# Altium integrated library Wurth_Elektronik_Passive_rev16a.IntLib: 1143 symbols (part 16 of 28)
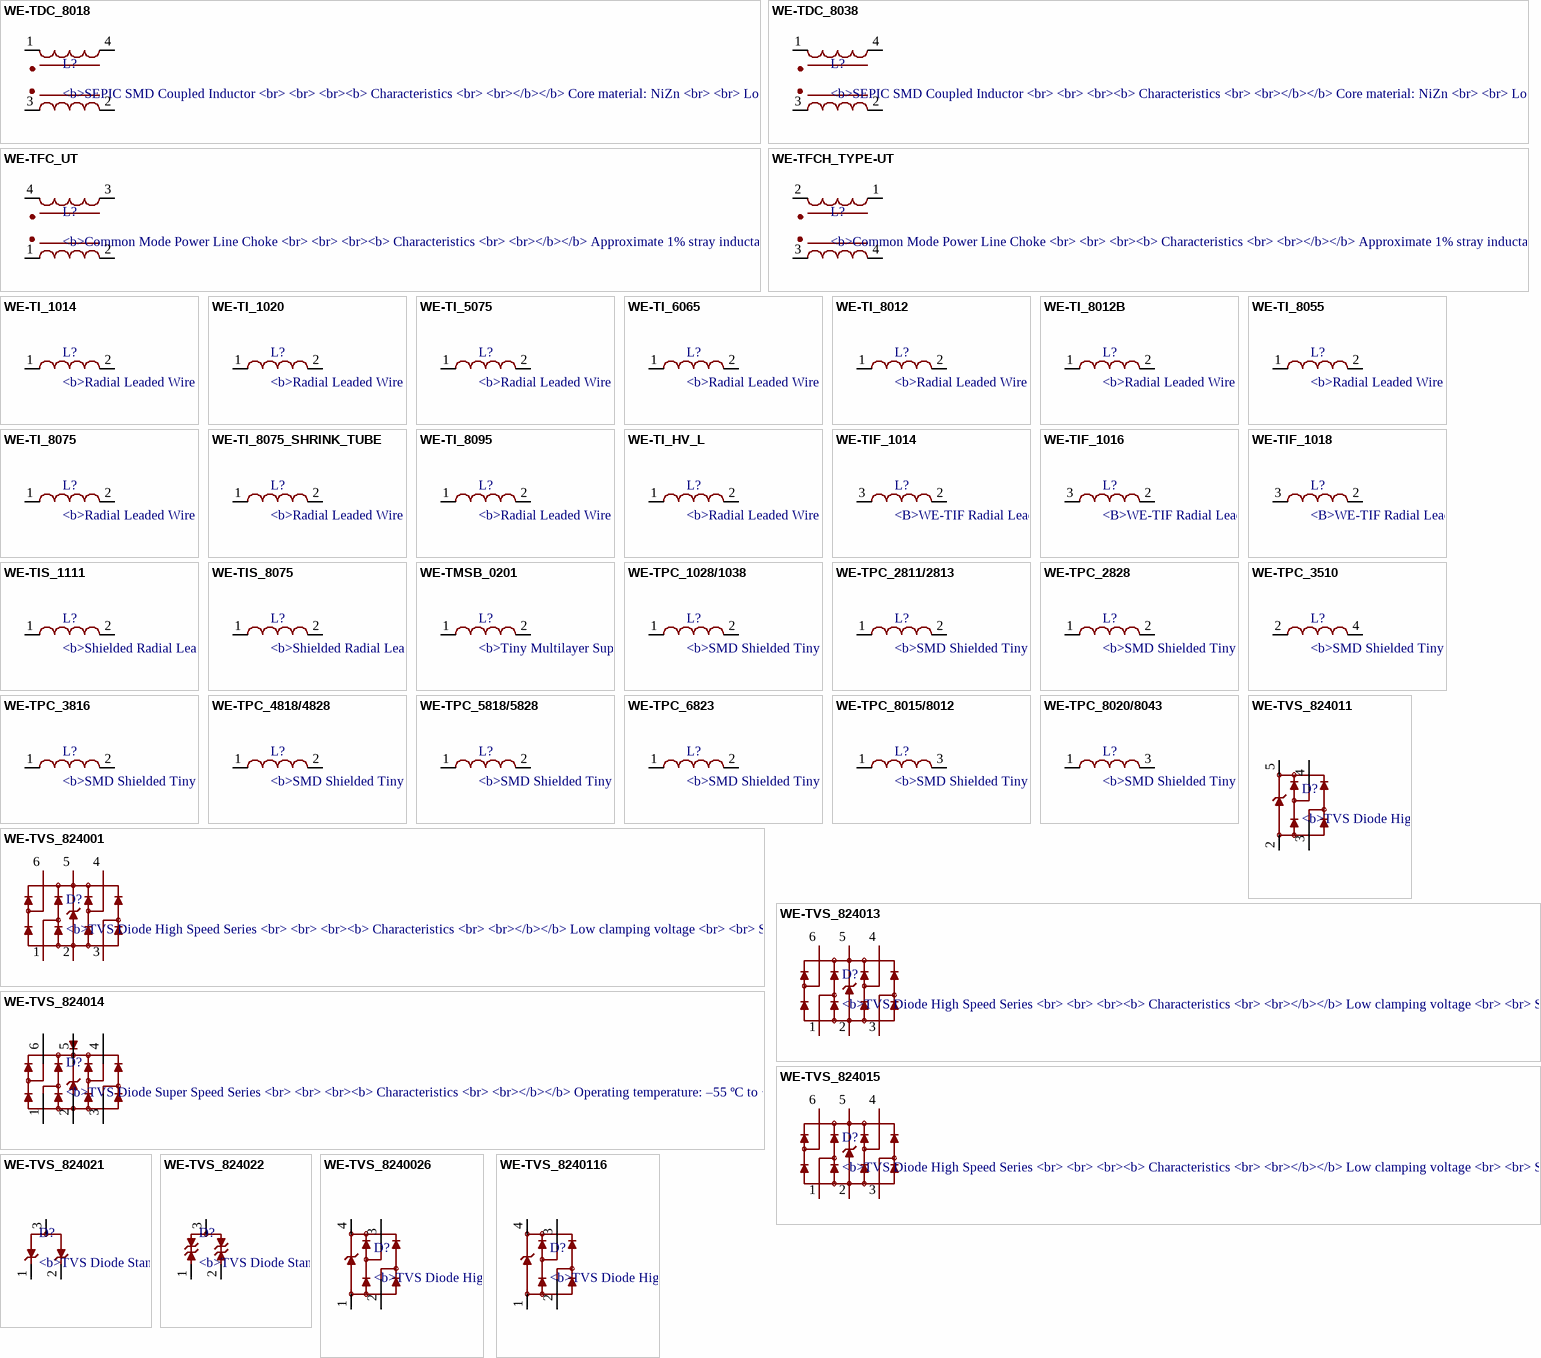
[diagram p73: symbols WE-TDC_8018 to WE-TVS_8240116]

## WE-TIF_1014
designator L?, comment <B>WE-TIF Radial Leaded Wire Wound Inductor with 4 Pins</B><BR> / <BR> / <B>Characteristics<br></b><br> / Radial through-hole inductor <br> / High saturation core material<br> / Maximum current up to 3.1 A <br> / 2 additional pins for high mechanical stability<br> / <br> / <b>Application</b><br> / <br> / Signal filtering <br> / EMI and power supply filter<br> / DC/DC converters <br> / Switching power<br> / Supplies for small and medium voltage<br> / Power supply for LED <br> / Nearfield applications <br> / <br> / <br><a href="http://katalog.we-online.de/media/images/eisos/IndTIF_pf2.jpg" title="Enlarge picture"> / <img src="http://katalog.we-online.de/media/images/eisos/IndTIF_pf2.jpg" width="320"></a><p> / Details see: <a href="http://katalog.we-online.de/en/pbs/WE-TIF">http://katalog.we-online.de/en/pbs/WE-TIF</a><p> / Updated on 2015-05-21<br> / 2015(C) Wurth Elektronik
footprint WE-TIF
pins: 2, 3 1

## WE-TIF_1016
designator L?, comment <B>WE-TIF Radial Leaded Wire Wound Inductor with 4 Pins</B><BR> / <BR> / <B>Characteristics<br></b><br> / Radial through-hole inductor <br> / High saturation core material<br> / Maximum current up to 3.1 A <br> / 2 additional pins for high mechanical stability<br> / <br> / <b>Application</b><br> / <br> / Signal filtering <br> / EMI and power supply filter<br> / DC/DC converters <br> / Switching power<br> / Supplies for small and medium voltage<br> / Power supply for LED <br> / Nearfield applications <br> / <br> / <br><a href="http://katalog.we-online.de/media/images/eisos/IndTIF_pf2.jpg" title="Enlarge picture"> / <img src="http://katalog.we-online.de/media/images/eisos/IndTIF_pf2.jpg" width="320"></a><p> / Details see: <a href="http://katalog.we-online.de/en/pbs/WE-TIF">http://katalog.we-online.de/en/pbs/WE-TIF</a><p> / Updated on 2015-05-21<br> / 2015(C) Wurth Elektronik
footprint WE-TIF_1016
pins: 2, 3 1

## WE-TIF_1018
designator L?, comment <B>WE-TIF Radial Leaded Wire Wound Inductor with 4 Pins</B><BR> / <BR> / <B>Characteristics<br></b><br> / Radial through-hole inductor <br> / High saturation core material<br> / Maximum current up to 3.1 A <br> / 2 additional pins for high mechanical stability<br> / <br> / <b>Application</b><br> / <br> / Signal filtering <br> / EMI and power supply filter<br> / DC/DC converters <br> / Switching power<br> / Supplies for small and medium voltage<br> / Power supply for LED <br> / Nearfield applications <br> / <br> / <br><a href="http://katalog.we-online.de/media/images/eisos/IndTIF_pf2.jpg" title="Enlarge picture"> / <img src="http://katalog.we-online.de/media/images/eisos/IndTIF_pf2.jpg" width="320"></a><p> / Details see: <a href="http://katalog.we-online.de/en/pbs/WE-TIF">http://katalog.we-online.de/en/pbs/WE-TIF</a><p> / Updated on 2015-05-21<br> / 2015(C) Wurth Elektronik
footprint WE-TIF
pins: 2, 3 1

## WE-TIS_1111
designator L?, comment <b>Shielded Radial Leaded Wire Wound Inductor / <br> / <br> / <br><b> Characteristics / <br> / <br></b></b> Shielded radial through-hole inductor / <br> / <br> High rated and saturation current / <br> / <br> High inductance values / <br> / <br> Low stray field / <br> / <br> / <br><b> Applications / <br> / <br></b> Filter choke / <br> / <br> Storage choke / <br> / <br> Class D amplifiers / <br> / <br> / <br> / <br><a href="http://katalog.we-online.de/media/images/eisos/IndTIS_pf2.jpg" title="Enlarge picture"> / <img src="http://katalog.we-online.de/media/images/eisos/IndTIS_pf2.jpg" width="320"></a><p> / Details see: <a href="http://katalog.we-online.de/en/pbs/WE-TIS?">http://katalog.we-online.de/en/pbs/WE-TIS?</a><p> / </b>Updated  by  Dan Xu 2014-07-11<br> / </b>2014 (C) Wurth Elektronik
footprint WE-TIS_1111
pins: 1, 2

## WE-TIS_8075
designator L?, comment <b>Shielded Radial Leaded Wire Wound Inductor / <br> / <br> / <br><b> Characteristics / <br> / <br></b></b> Shielded radial through-hole inductor / <br> / <br> High rated and saturation current / <br> / <br> High inductance values / <br> / <br> Low stray field / <br> / <br> / <br><b> Applications / <br> / <br></b> Filter choke / <br> / <br> Storage choke / <br> / <br> Class D amplifiers / <br> / <br> / <br> / <br><a href="http://katalog.we-online.de/media/images/eisos/IndTIS_pf2.jpg" title="Enlarge picture"> / <img src="http://katalog.we-online.de/media/images/eisos/IndTIS_pf2.jpg" width="320"></a><p> / Details see: <a href="http://katalog.we-online.de/en/pbs/WE-TIS?">http://katalog.we-online.de/en/pbs/WE-TIS?</a><p> / </b>Updated  by  Dan Xu 2014-07-11<br> / </b>2014 (C) Wurth Elektronik
footprint WE-TIS_8075
pins: 1, 2

## WE-TMSB_0201
designator L?, comment <b>Tiny Multilayer Suppression Bead / <br> / <br> / <br><b> Characteristics / <br> / <br></b></b> Perfect for Miniaturization of EMI solutions / <br> / <br> Wide Impedance range from 10 up to 300 Ω / <br> / <br> Operating Temperature: –55 °C to +125 °C / <br> / <br> / <br><b> Applications / <br> / <br></b> General signal and low power lines / <br> / <br> Audio-, video-, clocklines / <br> / <br> Small handheld / <br> / <br> / <br> / <br><a href="http://katalog.we-online.de/media/images/eisos/FeTMSB_pf2.jpg" title="Enlarge picture"> / <img src="http://katalog.we-online.de/media/images/eisos/FeTMSB_pf2.jpg" width="320"></a><p> / Details see: <a href="http://katalog.we-online.de/en/pbs/WE-TMSB?">http://katalog.we-online.de/en/pbs/WE-TMSB?</a><p> / </b>Updated  by  Dan Xu 2014-07-11<br> / </b>2014 (C) Wurth Elektronik
MANUFACTURER: Würth Elektronik eiSos GmbH; CREATED-BY: Christin Otto; COMPANY-URL: http://www.we-online.de; CREATED-DATE: August 2013; DATASHEET-URL: http://katalog.we-online.de/de/pbs/WE-TMSB?sid=4c5a5b26c6
footprint WE-TMSB_0201
pins: 1, 2

## WE-TPC_1028/1038
designator L?, comment <b>SMD Shielded Tiny Power Inductor / <br> / <br> / <br><b> Characteristics / <br> / <br></b></b> Extremely flat power inductor / <br> / <br> High current capability / <br> / <br> Magnetically shielded which results in a low leakage field / <br> / <brr> Operating temperature: –40 °C to +125 °C / <br> / <br> / <br><b> Applications / <br> / <br></b> Portable power like PDA, digital camera, PCMCIA cards and displays / <br> / <br> DC/DC converter / <br> / <br> Embedded PC / <br> / <br> Mobile data gathering, telemetric / <br> / <br> / <br> / <br><a href="http://katalog.we-online.de/media/images/eisos/IndTPC_pf2.jpg" title="Enlarge picture"> / <img src="http://katalog.we-online.de/media/images/eisos/IndTPC_pf2.jpg" width="320"></a><p> / Details see: <a href="http://katalog.we-online.de/en/pbs/WE-TPC?">http://katalog.we-online.de/en/pbs/WE-TPC?</a><p> / </b>Updated  by  Dan Xu 2014-07-11<br> / </b>2014 (C) Wurth Elektronik
footprint WE-TPC_1028/1038
pins: 1, 2

## WE-TPC_2811/2813
designator L?, comment <b>SMD Shielded Tiny Power Inductor / <br> / <br> / <br><b> Characteristics / <br> / <br></b></b> Extremely flat power inductor / <br> / <br> High current capability / <br> / <br> Magnetically shielded which results in a low leakage field / <br> / <brr> Operating temperature: –40 °C to +125 °C / <br> / <br> / <br><b> Applications / <br> / <br></b> Portable power like PDA, digital camera, PCMCIA cards and displays / <br> / <br> DC/DC converter / <br> / <br> Embedded PC / <br> / <br> Mobile data gathering, telemetric / <br> / <br> / <br> / <br><a href="http://katalog.we-online.de/media/images/eisos/IndTPC_pf2.jpg" title="Enlarge picture"> / <img src="http://katalog.we-online.de/media/images/eisos/IndTPC_pf2.jpg" width="320"></a><p> / Details see: <a href="http://katalog.we-online.de/en/pbs/WE-TPC?">http://katalog.we-online.de/en/pbs/WE-TPC?</a><p> / </b>Updated  by  Dan Xu 2014-07-11<br> / </b>2014 (C) Wurth Elektronik
footprint WE-TPC_2811/2813
pins: 1, 2

## WE-TPC_2828
designator L?, comment <b>SMD Shielded Tiny Power Inductor / <br> / <br> / <br><b> Characteristics / <br> / <br></b></b> Extremely flat power inductor / <br> / <br> High current capability / <br> / <br> Magnetically shielded which results in a low leakage field / <br> / <brr> Operating temperature: –40 °C to +125 °C / <br> / <br> / <br><b> Applications / <br> / <br></b> Portable power like PDA, digital camera, PCMCIA cards and displays / <br> / <br> DC/DC converter / <br> / <br> Embedded PC / <br> / <br> Mobile data gathering, telemetric / <br> / <br> / <br> / <br><a href="http://katalog.we-online.de/media/images/eisos/IndTPC_pf2.jpg" title="Enlarge picture"> / <img src="http://katalog.we-online.de/media/images/eisos/IndTPC_pf2.jpg" width="320"></a><p> / Details see: <a href="http://katalog.we-online.de/en/pbs/WE-TPC?">http://katalog.we-online.de/en/pbs/WE-TPC?</a><p> / </b>Updated  by  Dan Xu 2014-07-11<br> / </b>2014 (C) Wurth Elektronik
footprint WE-TPC_2828
pins: 1, 2

## WE-TPC_3510
designator L?, comment <b>SMD Shielded Tiny Power Inductor / <br> / <br> / <br><b> Characteristics / <br> / <br></b></b> Extremely flat power inductor / <br> / <br> High current capability / <br> / <br> Magnetically shielded which results in a low leakage field / <br> / <brr> Operating temperature: –40 °C to +125 °C / <br> / <br> / <br><b> Applications / <br> / <br></b> Portable power like PDA, digital camera, PCMCIA cards and displays / <br> / <br> DC/DC converter / <br> / <br> Embedded PC / <br> / <br> Mobile data gathering, telemetric / <br> / <br> / <br> / <br><a href="http://katalog.we-online.de/media/images/eisos/IndTPC_pf2.jpg" title="Enlarge picture"> / <img src="http://katalog.we-online.de/media/images/eisos/IndTPC_pf2.jpg" width="320"></a><p> / Details see: <a href="http://katalog.we-online.de/en/pbs/WE-TPC?">http://katalog.we-online.de/en/pbs/WE-TPC?</a><p> / </b>Updated  by  Dan Xu 2014-07-11<br> / </b>2014 (C) Wurth Elektronik
footprint WE-TPC_3510
pins: 2 1, 4 2

## WE-TPC_3816
designator L?, comment <b>SMD Shielded Tiny Power Inductor / <br> / <br> / <br><b> Characteristics / <br> / <br></b></b> Extremely flat power inductor / <br> / <br> High current capability / <br> / <br> Magnetically shielded which results in a low leakage field / <br> / <brr> Operating temperature: –40 °C to +125 °C / <br> / <br> / <br><b> Applications / <br> / <br></b> Portable power like PDA, digital camera, PCMCIA cards and displays / <br> / <br> DC/DC converter / <br> / <br> Embedded PC / <br> / <br> Mobile data gathering, telemetric / <br> / <br> / <br> / <br><a href="http://katalog.we-online.de/media/images/eisos/IndTPC_pf2.jpg" title="Enlarge picture"> / <img src="http://katalog.we-online.de/media/images/eisos/IndTPC_pf2.jpg" width="320"></a><p> / Details see: <a href="http://katalog.we-online.de/en/pbs/WE-TPC?">http://katalog.we-online.de/en/pbs/WE-TPC?</a><p> / </b>Updated  by  Dan Xu 2014-07-11<br> / </b>2014 (C) Wurth Elektronik
footprint WE-TPC_3816
pins: 1, 2

## WE-TPC_4818/4828
designator L?, comment <b>SMD Shielded Tiny Power Inductor / <br> / <br> / <br><b> Characteristics / <br> / <br></b></b> Extremely flat power inductor / <br> / <br> High current capability / <br> / <br> Magnetically shielded which results in a low leakage field / <br> / <brr> Operating temperature: –40 °C to +125 °C / <br> / <br> / <br><b> Applications / <br> / <br></b> Portable power like PDA, digital camera, PCMCIA cards and displays / <br> / <br> DC/DC converter / <br> / <br> Embedded PC / <br> / <br> Mobile data gathering, telemetric / <br> / <br> / <br> / <br><a href="http://katalog.we-online.de/media/images/eisos/IndTPC_pf2.jpg" title="Enlarge picture"> / <img src="http://katalog.we-online.de/media/images/eisos/IndTPC_pf2.jpg" width="320"></a><p> / Details see: <a href="http://katalog.we-online.de/en/pbs/WE-TPC?">http://katalog.we-online.de/en/pbs/WE-TPC?</a><p> / </b>Updated  by  Dan Xu 2014-07-11<br> / </b>2014 (C) Wurth Elektronik
footprint WE-TPC_4818/4828
pins: 1, 2

## WE-TPC_5818/5828
designator L?, comment <b>SMD Shielded Tiny Power Inductor / <br> / <br> / <br><b> Characteristics / <br> / <br></b></b> Extremely flat power inductor / <br> / <br> High current capability / <br> / <br> Magnetically shielded which results in a low leakage field / <br> / <brr> Operating temperature: –40 °C to +125 °C / <br> / <br> / <br><b> Applications / <br> / <br></b> Portable power like PDA, digital camera, PCMCIA cards and displays / <br> / <br> DC/DC converter / <br> / <br> Embedded PC / <br> / <br> Mobile data gathering, telemetric / <br> / <br> / <br> / <br><a href="http://katalog.we-online.de/media/images/eisos/IndTPC_pf2.jpg" title="Enlarge picture"> / <img src="http://katalog.we-online.de/media/images/eisos/IndTPC_pf2.jpg" width="320"></a><p> / Details see: <a href="http://katalog.we-online.de/en/pbs/WE-TPC?">http://katalog.we-online.de/en/pbs/WE-TPC?</a><p> / </b>Updated  by  Dan Xu 2014-07-11<br> / </b>2014 (C) Wurth Elektronik
footprint WE-TPC_5818/5828
pins: 1, 2

## WE-TPC_6823
designator L?, comment <b>SMD Shielded Tiny Power Inductor / <br> / <br> / <br><b> Characteristics / <br> / <br></b></b> Extremely flat power inductor / <br> / <br> High current capability / <br> / <br> Magnetically shielded which results in a low leakage field / <br> / <brr> Operating temperature: –40 °C to +125 °C / <br> / <br> / <br><b> Applications / <br> / <br></b> Portable power like PDA, digital camera, PCMCIA cards and displays / <br> / <br> DC/DC converter / <br> / <br> Embedded PC / <br> / <br> Mobile data gathering, telemetric / <br> / <br> / <br> / <br><a href="http://katalog.we-online.de/media/images/eisos/IndTPC_pf2.jpg" title="Enlarge picture"> / <img src="http://katalog.we-online.de/media/images/eisos/IndTPC_pf2.jpg" width="320"></a><p> / Details see: <a href="http://katalog.we-online.de/en/pbs/WE-TPC?">http://katalog.we-online.de/en/pbs/WE-TPC?</a><p> / </b>Updated  by  Dan Xu 2014-07-11<br> / </b>2014 (C) Wurth Elektronik
footprint WE-TPC_6823
pins: 1, 2

## WE-TPC_8015/8012
designator L?, comment <b>SMD Shielded Tiny Power Inductor / <br> / <br> / <br><b> Characteristics / <br> / <br></b></b> Extremely flat power inductor / <br> / <br> High current capability / <br> / <br> Magnetically shielded which results in a low leakage field / <br> / <brr> Operating temperature: –40 °C to +125 °C / <br> / <br> / <br><b> Applications / <br> / <br></b> Portable power like PDA, digital camera, PCMCIA cards and displays / <br> / <br> DC/DC converter / <br> / <br> Embedded PC / <br> / <br> Mobile data gathering, telemetric / <br> / <br> / <br> / <br><a href="http://katalog.we-online.de/media/images/eisos/IndTPC_pf2.jpg" title="Enlarge picture"> / <img src="http://katalog.we-online.de/media/images/eisos/IndTPC_pf2.jpg" width="320"></a><p> / Details see: <a href="http://katalog.we-online.de/en/pbs/WE-TPC?">http://katalog.we-online.de/en/pbs/WE-TPC?</a><p> / </b>Updated  by  Dan Xu 2014-07-11<br> / </b>2014 (C) Wurth Elektronik
footprint WE-TPC_8015/8012
pins: 1, 3 2

## WE-TPC_8020/8043
designator L?, comment <b>SMD Shielded Tiny Power Inductor / <br> / <br> / <br><b> Characteristics / <br> / <br></b></b> Extremely flat power inductor / <br> / <br> High current capability / <br> / <br> Magnetically shielded which results in a low leakage field / <br> / <brr> Operating temperature: –40 °C to +125 °C / <br> / <br> / <br><b> Applications / <br> / <br></b> Portable power like PDA, digital camera, PCMCIA cards and displays / <br> / <br> DC/DC converter / <br> / <br> Embedded PC / <br> / <br> Mobile data gathering, telemetric / <br> / <br> / <br> / <br><a href="http://katalog.we-online.de/media/images/eisos/IndTPC_pf2.jpg" title="Enlarge picture"> / <img src="http://katalog.we-online.de/media/images/eisos/IndTPC_pf2.jpg" width="320"></a><p> / Details see: <a href="http://katalog.we-online.de/en/pbs/WE-TPC?">http://katalog.we-online.de/en/pbs/WE-TPC?</a><p> / </b>Updated  by  Dan Xu 2014-07-11<br> / </b>2014 (C) Wurth Elektronik
footprint WE-TPC_8020/8043
pins: 1, 3 2

## WE-TVS_824001
designator D?, comment <b>TVS Diode High Speed Series / <br> / <br> / <br><b> Characteristics / <br> / <br></b></b> Low clamping voltage / <br> / <br> Sturdy design / <br> / <br> Very low capacitance / <br> / <br> Flow Thru Design for a simple layout / <br> / <br> Rail to Rail protection / <br> / <br> Epoxy flame resistant UL94 V-0 / <br> / <br> RoHS, REACH and free of halogens / <br> / <br> / <br><b> Applications / <br> / <br></b> Very fast data lines / <br> / <br> USB 2.0 / <br> / <br> Ethernet / <br> / <br> PoE / <br> / <br> VGA / <br> / <br> Sim Cards / <br> / <br> Keypads / <br> / <br> ESD protection in accordance with EN 61000-4-2, / <br>– 8 kV contact discharge / <br>– 15 kV air discharge / <br> / <br> / <br> / <br><a href="http://katalog.we-online.de/media/images/eisos/VarTVS_highspeed_pf2.jpg.jpg" title="Enlarge picture"> / <img src="http://katalog.we-online.de/media/images/eisos/VarTVS_highspeed_pf2.jpg" width="320"></a><p> / Details see: <a href="http://katalog.we-online.de/en/pbs/WE-TVS_High_Speed/824001?">http://katalog.we-online.de/en/pbs/WE-TVS_High_Speed/824001?</a><p> / </b>Updated  by  Dan Xu 2014-07-11<br> / </b>2014 (C) Wurth Elektronik
footprint WE-TVS_SOT23-6L
pins: 1, 2 GND (power), 3 2, 4 3, 5 VDD (power), 6 4

## WE-TVS_824011
designator D?, comment <b>TVS Diode High Speed Series / <br> / <br> / <br><b> Characteristics / <br> / <br></b></b> Low clamping voltage / <br> / <br> Sturdy design / <br> / <br> Very low capacitance / <br> / <br> Flow Thru Design for a simple layout / <br> / <br> Rail to Rail protection / <br> / <br> Epoxy flame resistant UL94 V-0 / <br> / <br> RoHS, REACH and free of halogens / <br> / <br> / <br><b> Applications / <br> / <br></b> Very fast data lines / <br> / <br> USB 2.0 / <br> / <br> Ethernet / <br> / <br> PoE / <br> / <br> VGA / <br> / <br> Sim Cards / <br> / <br> Keypads / <br> / <br> ESD protection in accordance with EN 61000-4-2, / <br>– 8 kV contact discharge / <br>– 15 kV air discharge / <br> / <br> / <br> / <br><a href="http://katalog.we-online.de/media/images/eisos/VarTVS_highspeed_pf2.jpg.jpg" title="Enlarge picture"> / <img src="http://katalog.we-online.de/media/images/eisos/VarTVS_highspeed_pf2.jpg" width="320"></a><p> / Details see: <a href="http://katalog.we-online.de/en/pbs/WE-TVS_High_Speed/824001?">http://katalog.we-online.de/en/pbs/WE-TVS_High_Speed/824001?</a><p> / </b>Updated  by  Dan Xu 2014-07-11<br> / </b>2014 (C) Wurth Elektronik
footprint WE-TVS_SOT23-5L
pins: 2 GND (power), 3 1, 4 2, 5 VDD (power)

## WE-TVS_824013
designator D?, comment <b>TVS Diode High Speed Series / <br> / <br> / <br><b> Characteristics / <br> / <br></b></b> Low clamping voltage / <br> / <br> Sturdy design / <br> / <br> Very low capacitance / <br> / <br> Flow Thru Design for a simple layout / <br> / <br> Rail to Rail protection / <br> / <br> Epoxy flame resistant UL94 V-0 / <br> / <br> RoHS, REACH and free of halogens / <br> / <br> / <br><b> Applications / <br> / <br></b> Very fast data lines / <br> / <br> USB 2.0 / <br> / <br> Ethernet / <br> / <br> PoE / <br> / <br> VGA / <br> / <br> Sim Cards / <br> / <br> Keypads / <br> / <br> ESD protection in accordance with EN 61000-4-2, / <br>– 8 kV contact discharge / <br>– 15 kV air discharge / <br> / <br> / <br> / <br><a href="http://katalog.we-online.de/media/images/eisos/VarTVS_highspeed_pf2.jpg.jpg" title="Enlarge picture"> / <img src="http://katalog.we-online.de/media/images/eisos/VarTVS_highspeed_pf2.jpg" width="320"></a><p> / Details see: <a href="http://katalog.we-online.de/en/pbs/WE-TVS_High_Speed/824001?">http://katalog.we-online.de/en/pbs/WE-TVS_High_Speed/824001?</a><p> / </b>Updated  by  Dan Xu 2014-07-11<br> / </b>2014 (C) Wurth Elektronik
footprint WE-TVS_SOT23-6L
pins: 1, 2 GND (power), 3 2, 4 3, 5 VDD (power), 6 4

## WE-TVS_824014
designator D?, comment <b>TVS Diode Super Speed Series / <br> / <br> / <br><b> Characteristics / <br> / <br></b></b> Operating temperature: –55 ºC to +85 °C for 824 014 x; –40 ºC to +85 °C for 824 016 46 / <br> / <br> Low clamping voltage / <br> / <br> Very low capacitance / <br> / <br> Rail to Rail protection / <br> / <br> Epoxy flame resistant UL94 V-0 / <br> / <br> RoHS, REACH and free of halogens / <br> / <br> / <br><b> Applications / <br> / <br></b> Super Speed data lines / <br> / <br> HDMI 1.3/1.4, DVI / <br> / <brr> DisplayPort / <br> / <br> USB 3.0 SuperSpeed / <br> / <brr> SATA / <br> / <br> GBit LAN / <br> / <brr> ESD protection in accordance with EN 61000-4-2 / <br>– 8 kV contact discharge / <br>– 15 kV air discharge / <br> / <br> / <br> / <br><a href="http://katalog.we-online.de/media/images/eisos/VarTVS_highspeed_pf2.jpg.jpg" title="Enlarge picture"> / <img src="http://katalog.we-online.de/media/images/eisos/VarTVS_highspeed_pf2.jpg" width="320"></a><p> / Details see: <a href="http://katalog.we-online.de/en/pbs/WE-TVS_High_Speed/24014?">http://katalog.we-online.de/en/pbs/WE-TVS_High_Speed/24014?</a><p> / </b>Updated  by  Dan Xu 2014-07-11<br> / </b>2014 (C) Wurth Elektronik
footprint WE-TVS_SOT23-6L
pins: 1, 2 GND (power), 3 2, 4 3, 5 VDD (power), 6 4

## WE-TVS_824015
designator D?, comment <b>TVS Diode High Speed Series / <br> / <br> / <br><b> Characteristics / <br> / <br></b></b> Low clamping voltage / <br> / <br> Sturdy design / <br> / <br> Very low capacitance / <br> / <br> Flow Thru Design for a simple layout / <br> / <br> Rail to Rail protection / <br> / <br> Epoxy flame resistant UL94 V-0 / <br> / <br> RoHS, REACH and free of halogens / <br> / <br> / <br><b> Applications / <br> / <br></b> Very fast data lines / <br> / <br> USB 2.0 / <br> / <br> Ethernet / <br> / <br> PoE / <br> / <br> VGA / <br> / <br> Sim Cards / <br> / <br> Keypads / <br> / <br> ESD protection in accordance with EN 61000-4-2, / <br>– 8 kV contact discharge / <br>– 15 kV air discharge / <br> / <br> / <br> / <br><a href="http://katalog.we-online.de/media/images/eisos/VarTVS_highspeed_pf2.jpg.jpg" title="Enlarge picture"> / <img src="http://katalog.we-online.de/media/images/eisos/VarTVS_highspeed_pf2.jpg" width="320"></a><p> / Details see: <a href="http://katalog.we-online.de/en/pbs/WE-TVS_High_Speed/824001?">http://katalog.we-online.de/en/pbs/WE-TVS_High_Speed/824001?</a><p> / </b>Updated  by  Dan Xu 2014-07-11<br> / </b>2014 (C) Wurth Elektronik
footprint WE-TVS_SOT23-6L
pins: 1, 2 GND (power), 3 2, 4 3, 5 VDD (power), 6 4

## WE-TVS_824021
designator D?, comment <b>TVS Diode Standard Series / <br> / <br> / <br><b> Characteristics / <br> / <br></b></b> Operating temperature: –55 ºC to +85 °C for 824 023 x; –55 ºC to +125 °C for 824 021/824 022 / <br> / <br> Very low clamping voltage / <br> / <br> High ESD withstand voltage / <br> / <br> Unidirectional or bidirectional protection / <br> RoHS, REACH and free of halogens / <br> / <br> / <br><b> Applications / <br> / <br></b> DC power supply / <br> / <br> Headsets and accessories / <br> / <br> PDAs / <br> / <br> Digital cameras / <br> / <br> MP3-Player / <br> / <br> Touch Panels / <br> / <br> ESD protection in accordance with EN 61000-4-2 / <br>– 8 kV contact discharge / <br>– 15 kV air discharge / <br> / <br> / <br> / <br><a href="http://katalog.we-online.de/media/images/eisos/VarTVS_highspeed_pf2.jpg.jpg" title="Enlarge picture"> / <img src="http://katalog.we-online.de/media/images/eisos/VarTVS_highspeed_pf2.jpg" width="320"></a><p> / Details see: <a href="http://katalog.we-online.de/en/pbs/WE-TVS_High_Speed/824021?">http://katalog.we-online.de/en/pbs/WE-TVS_High_Speed/824021?</a><p> / </b>Updated  by  Dan Xu 2014-07-11<br> / </b>2014 (C) Wurth Elektronik
footprint WE-TVS_SOT23-3L
pins: 1, 2, 3 GND (power)

## WE-TVS_824022
designator D?, comment <b>TVS Diode Standard Series / <br> / <br> / <br><b> Characteristics / <br> / <br></b></b> Operating temperature: –55 ºC to +85 °C for 824 023 x; –55 ºC to +125 °C for 824 021/824 022 / <br> / <br> Very low clamping voltage / <br> / <br> High ESD withstand voltage / <br> / <br> Unidirectional or bidirectional protection / <br> RoHS, REACH and free of halogens / <br> / <br> / <br><b> Applications / <br> / <br></b> DC power supply / <br> / <br> Headsets and accessories / <br> / <br> PDAs / <br> / <br> Digital cameras / <br> / <br> MP3-Player / <br> / <br> Touch Panels / <br> / <br> ESD protection in accordance with EN 61000-4-2 / <br>– 8 kV contact discharge / <br>– 15 kV air discharge / <br> / <br> / <br> / <br><a href="http://katalog.we-online.de/media/images/eisos/VarTVS_highspeed_pf2.jpg.jpg" title="Enlarge picture"> / <img src="http://katalog.we-online.de/media/images/eisos/VarTVS_highspeed_pf2.jpg" width="320"></a><p> / Details see: <a href="http://katalog.we-online.de/en/pbs/WE-TVS_High_Speed/824021?">http://katalog.we-online.de/en/pbs/WE-TVS_High_Speed/824021?</a><p> / </b>Updated  by  Dan Xu 2014-07-11<br> / </b>2014 (C) Wurth Elektronik
footprint WE-TVS_SOT23-3L
pins: 1, 2, 3 GND (power)

## WE-TVS_8240026
designator D?, comment <b>TVS Diode High Speed Series / <br> / <br> / <br><b> Characteristics / <br> / <br></b></b> Low clamping voltage / <br> / <br> Sturdy design / <br> / <br> Very low capacitance / <br> / <br> Flow Thru Design for a simple layout / <br> / <br> Rail to Rail protection / <br> / <br> Epoxy flame resistant UL94 V-0 / <br> / <br> RoHS, REACH and free of halogens / <br> / <br> / <br><b> Applications / <br> / <br></b> Very fast data lines / <br> / <br> USB 2.0 / <br> / <br> Ethernet / <br> / <br> PoE / <br> / <br> VGA / <br> / <br> Sim Cards / <br> / <br> Keypads / <br> / <br> ESD protection in accordance with EN 61000-4-2, / <br>– 8 kV contact discharge / <br>– 15 kV air discharge / <br> / <br> / <br> / <br><a href="http://katalog.we-online.de/media/images/eisos/VarTVS_highspeed_pf2.jpg.jpg" title="Enlarge picture"> / <img src="http://katalog.we-online.de/media/images/eisos/VarTVS_highspeed_pf2.jpg" width="320"></a><p> / Details see: <a href="http://katalog.we-online.de/en/pbs/WE-TVS_High_Speed/824001?">http://katalog.we-online.de/en/pbs/WE-TVS_High_Speed/824001?</a><p> / </b>Updated  by  Dan Xu 2014-07-11<br> / </b>2014 (C) Wurth Elektronik
footprint WE-TVS_SOT143-4L
pins: 1 GND (power), 2 1, 3 2, 4 VDD (power)

## WE-TVS_8240116
designator D?, comment <b>TVS Diode High Speed Series / <br> / <br> / <br><b> Characteristics / <br> / <br></b></b> Low clamping voltage / <br> / <br> Sturdy design / <br> / <br> Very low capacitance / <br> / <br> Flow Thru Design for a simple layout / <br> / <br> Rail to Rail protection / <br> / <br> Epoxy flame resistant UL94 V-0 / <br> / <br> RoHS, REACH and free of halogens / <br> / <br> / <br><b> Applications / <br> / <br></b> Very fast data lines / <br> / <br> USB 2.0 / <br> / <br> Ethernet / <br> / <br> PoE / <br> / <br> VGA / <br> / <br> Sim Cards / <br> / <br> Keypads / <br> / <br> ESD protection in accordance with EN 61000-4-2, / <br>– 8 kV contact discharge / <br>– 15 kV air discharge / <br> / <br> / <br> / <br><a href="http://katalog.we-online.de/media/images/eisos/VarTVS_highspeed_pf2.jpg.jpg" title="Enlarge picture"> / <img src="http://katalog.we-online.de/media/images/eisos/VarTVS_highspeed_pf2.jpg" width="320"></a><p> / Details see: <a href="http://katalog.we-online.de/en/pbs/WE-TVS_High_Speed/824001?">http://katalog.we-online.de/en/pbs/WE-TVS_High_Speed/824001?</a><p> / </b>Updated  by  Dan Xu 2014-07-11<br> / </b>2014 (C) Wurth Elektronik
footprint WE-TVS_SOT143-4L
pins: 1 GND (power), 2 1, 3 2, 4 VDD (power)

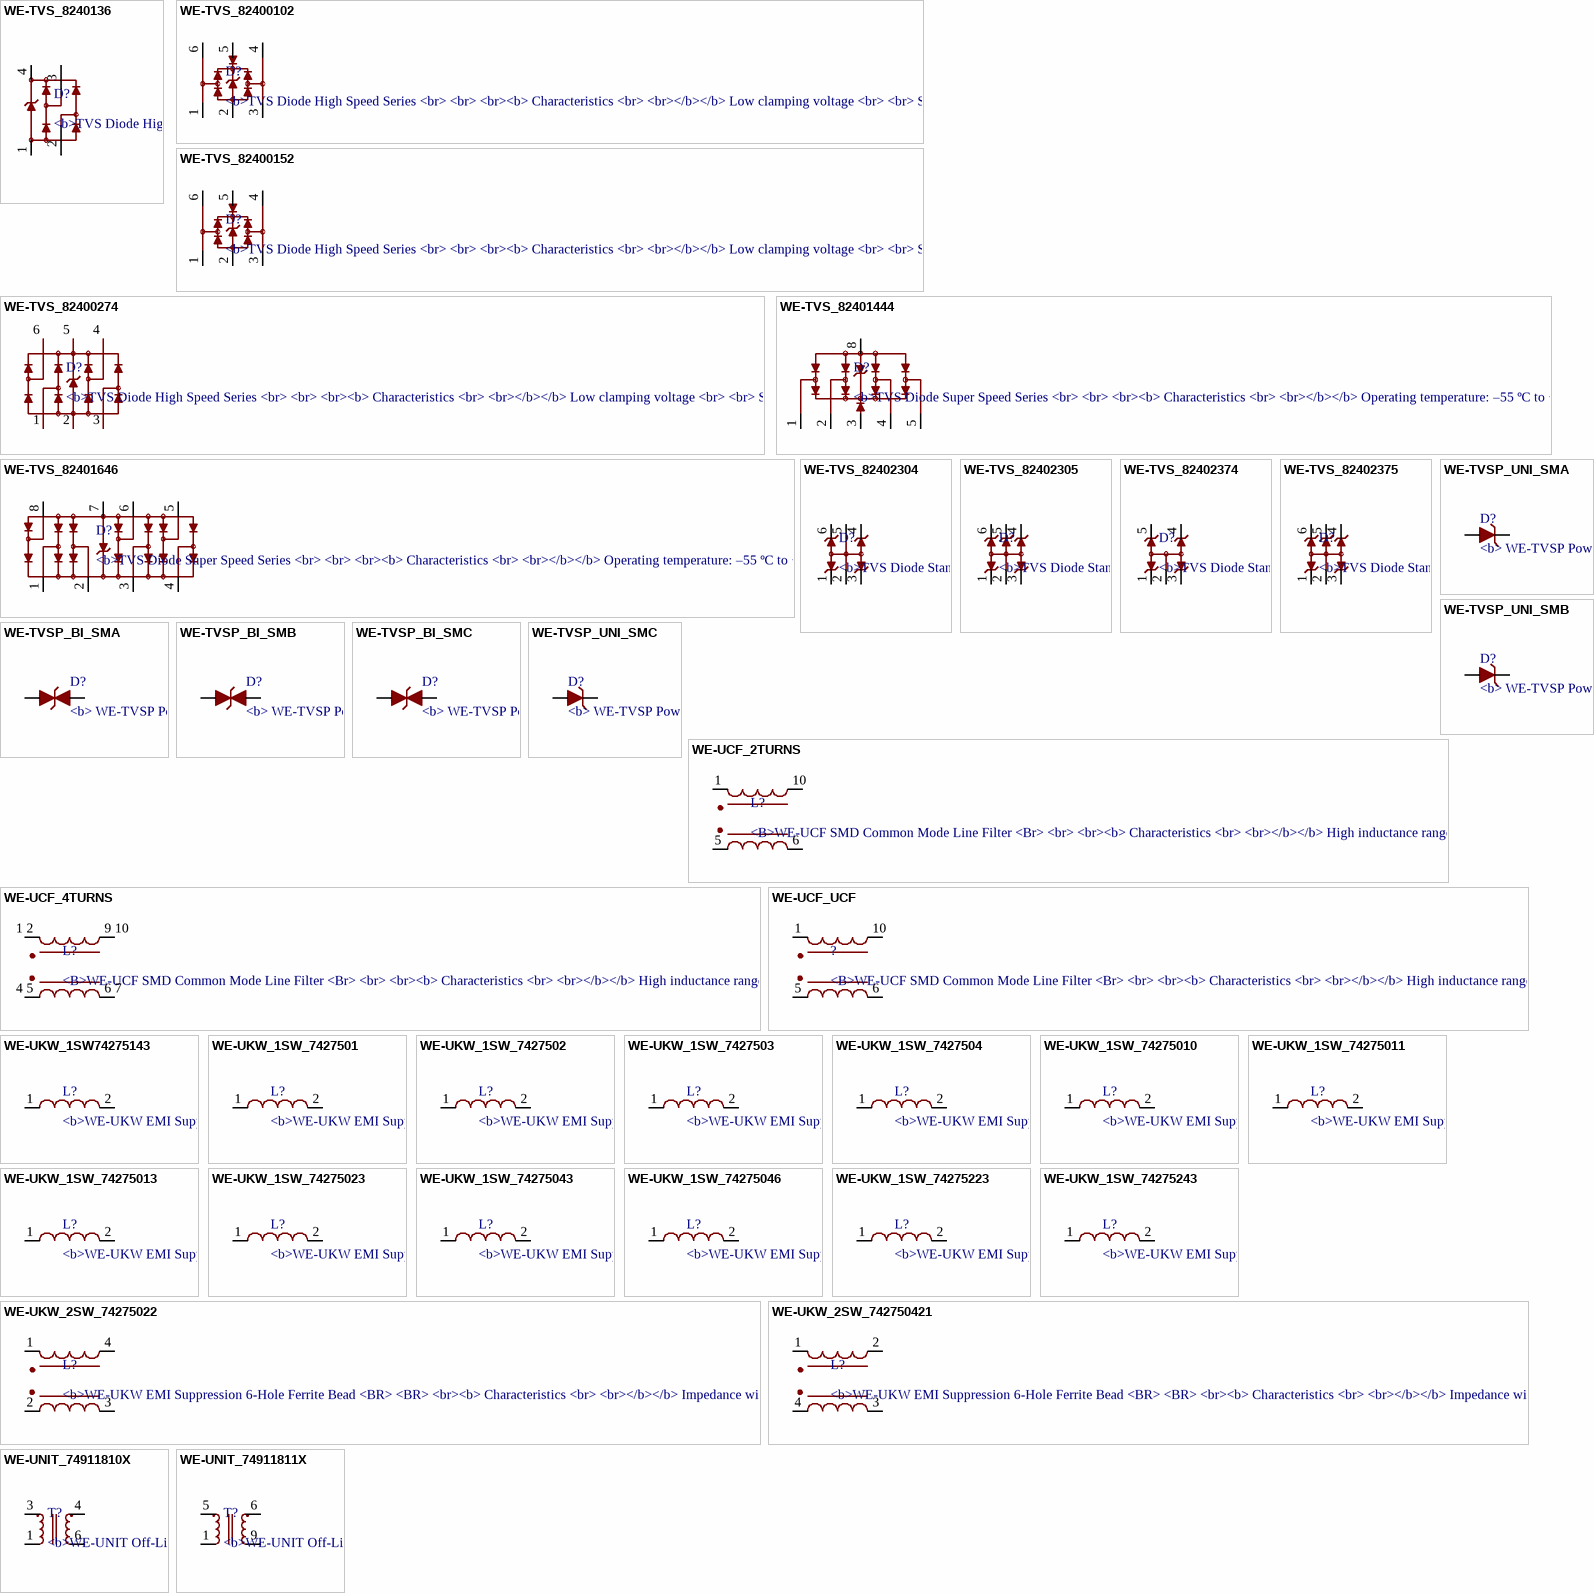
[diagram p47: symbols WE-TVS_8240136 to WE-UNIT_74911811X]

## WE-TVS_8240136
designator D?, comment <b>TVS Diode High Speed Series / <br> / <br> / <br><b> Characteristics / <br> / <br></b></b> Low clamping voltage / <br> / <br> Sturdy design / <br> / <br> Very low capacitance / <br> / <br> Flow Thru Design for a simple layout / <br> / <br> Rail to Rail protection / <br> / <br> Epoxy flame resistant UL94 V-0 / <br> / <br> RoHS, REACH and free of halogens / <br> / <br> / <br><b> Applications / <br> / <br></b> Very fast data lines / <br> / <br> USB 2.0 / <br> / <br> Ethernet / <br> / <br> PoE / <br> / <br> VGA / <br> / <br> Sim Cards / <br> / <br> Keypads / <br> / <br> ESD protection in accordance with EN 61000-4-2, / <br>– 8 kV contact discharge / <br>– 15 kV air discharge / <br> / <br> / <br> / <br><a href="http://katalog.we-online.de/media/images/eisos/VarTVS_highspeed_pf2.jpg.jpg" title="Enlarge picture"> / <img src="http://katalog.we-online.de/media/images/eisos/VarTVS_highspeed_pf2.jpg" width="320"></a><p> / Details see: <a href="http://katalog.we-online.de/en/pbs/WE-TVS_High_Speed/824001?">http://katalog.we-online.de/en/pbs/WE-TVS_High_Speed/824001?</a><p> / </b>Updated  by  Dan Xu 2014-07-11<br> / </b>2014 (C) Wurth Elektronik
footprint WE-TVS_SOT143-4L
pins: 1 GND (power), 2 1, 3 2, 4 VDD (power)

## WE-TVS_82400102
designator D?, comment <b>TVS Diode High Speed Series / <br> / <br> / <br><b> Characteristics / <br> / <br></b></b> Low clamping voltage / <br> / <br> Sturdy design / <br> / <br> Very low capacitance / <br> / <br> Flow Thru Design for a simple layout / <br> / <br> Rail to Rail protection / <br> / <br> Epoxy flame resistant UL94 V-0 / <br> / <br> RoHS, REACH and free of halogens / <br> / <br> / <br><b> Applications / <br> / <br></b> Very fast data lines / <br> / <br> USB 2.0 / <br> / <br> Ethernet / <br> / <br> PoE / <br> / <br> VGA / <br> / <br> Sim Cards / <br> / <br> Keypads / <br> / <br> ESD protection in accordance with EN 61000-4-2, / <br>– 8 kV contact discharge / <br>– 15 kV air discharge / <br> / <br> / <br> / <br><a href="http://katalog.we-online.de/media/images/eisos/VarTVS_highspeed_pf2.jpg.jpg" title="Enlarge picture"> / <img src="http://katalog.we-online.de/media/images/eisos/VarTVS_highspeed_pf2.jpg" width="320"></a><p> / Details see: <a href="http://katalog.we-online.de/en/pbs/WE-TVS_High_Speed/824001?">http://katalog.we-online.de/en/pbs/WE-TVS_High_Speed/824001?</a><p> / </b>Updated  by  Dan Xu 2014-07-11<br> / </b>2014 (C) Wurth Elektronik
footprint WE-TVS_SOT23-6L
pins: 1, 2 GND (power), 3 2, 4 3, 5 VDD (power), 6 4

## WE-TVS_82400152
designator D?, comment <b>TVS Diode High Speed Series / <br> / <br> / <br><b> Characteristics / <br> / <br></b></b> Low clamping voltage / <br> / <br> Sturdy design / <br> / <br> Very low capacitance / <br> / <br> Flow Thru Design for a simple layout / <br> / <br> Rail to Rail protection / <br> / <br> Epoxy flame resistant UL94 V-0 / <br> / <br> RoHS, REACH and free of halogens / <br> / <br> / <br><b> Applications / <br> / <br></b> Very fast data lines / <br> / <br> USB 2.0 / <br> / <br> Ethernet / <br> / <br> PoE / <br> / <br> VGA / <br> / <br> Sim Cards / <br> / <br> Keypads / <br> / <br> ESD protection in accordance with EN 61000-4-2, / <br>– 8 kV contact discharge / <br>– 15 kV air discharge / <br> / <br> / <br> / <br><a href="http://katalog.we-online.de/media/images/eisos/VarTVS_highspeed_pf2.jpg.jpg" title="Enlarge picture"> / <img src="http://katalog.we-online.de/media/images/eisos/VarTVS_highspeed_pf2.jpg" width="320"></a><p> / Details see: <a href="http://katalog.we-online.de/en/pbs/WE-TVS_High_Speed/824001?">http://katalog.we-online.de/en/pbs/WE-TVS_High_Speed/824001?</a><p> / </b>Updated  by  Dan Xu 2014-07-11<br> / </b>2014 (C) Wurth Elektronik
footprint WE-TVS_SOT563
pins: 1, 2 GND (power), 3 2, 4 3, 5 VDD (power), 6 4

## WE-TVS_82400274
designator D?, comment <b>TVS Diode High Speed Series / <br> / <br> / <br><b> Characteristics / <br> / <br></b></b> Low clamping voltage / <br> / <br> Sturdy design / <br> / <br> Very low capacitance / <br> / <br> Flow Thru Design for a simple layout / <br> / <br> Rail to Rail protection / <br> / <br> Epoxy flame resistant UL94 V-0 / <br> / <br> RoHS, REACH and free of halogens / <br> / <br> / <br><b> Applications / <br> / <br></b> Very fast data lines / <br> / <br> USB 2.0 / <br> / <br> Ethernet / <br> / <br> PoE / <br> / <br> VGA / <br> / <br> Sim Cards / <br> / <br> Keypads / <br> / <br> ESD protection in accordance with EN 61000-4-2, / <br>– 8 kV contact discharge / <br>– 15 kV air discharge / <br> / <br> / <br> / <br><a href="http://katalog.we-online.de/media/images/eisos/VarTVS_highspeed_pf2.jpg.jpg" title="Enlarge picture"> / <img src="http://katalog.we-online.de/media/images/eisos/VarTVS_highspeed_pf2.jpg" width="320"></a><p> / Details see: <a href="http://katalog.we-online.de/en/pbs/WE-TVS_High_Speed/824001?">http://katalog.we-online.de/en/pbs/WE-TVS_High_Speed/824001?</a><p> / </b>Updated  by  Dan Xu 2014-07-11<br> / </b>2014 (C) Wurth Elektronik
footprint WE-TVS_SC70-6L
pins: 1, 2 GND (power), 3 2, 4 3, 5 VDD (power), 6 4

## WE-TVS_82401444
designator D?, comment <b>TVS Diode Super Speed Series / <br> / <br> / <br><b> Characteristics / <br> / <br></b></b> Operating temperature: –55 ºC to +85 °C for 824 014 x; –40 ºC to +85 °C for 824 016 46 / <br> / <br> Low clamping voltage / <br> / <br> Very low capacitance / <br> / <br> Rail to Rail protection / <br> / <br> Epoxy flame resistant UL94 V-0 / <br> / <br> RoHS, REACH and free of halogens / <br> / <br> / <br><b> Applications / <br> / <br></b> Super Speed data lines / <br> / <br> HDMI 1.3/1.4, DVI / <br> / <brr> DisplayPort / <br> / <br> USB 3.0 SuperSpeed / <br> / <brr> SATA / <br> / <br> GBit LAN / <br> / <brr> ESD protection in accordance with EN 61000-4-2 / <br>– 8 kV contact discharge / <br>– 15 kV air discharge / <br> / <br> / <br> / <br><a href="http://katalog.we-online.de/media/images/eisos/VarTVS_highspeed_pf2.jpg.jpg" title="Enlarge picture"> / <img src="http://katalog.we-online.de/media/images/eisos/VarTVS_highspeed_pf2.jpg" width="320"></a><p> / Details see: <a href="http://katalog.we-online.de/en/pbs/WE-TVS_High_Speed/24014?">http://katalog.we-online.de/en/pbs/WE-TVS_High_Speed/24014?</a><p> / </b>Updated  by  Dan Xu 2014-07-11<br> / </b>2014 (C) Wurth Elektronik
footprint WE-TVS_MSOP-10L
pins: 1, 2, 3 VDD (power), 4 3, 5 4, 8 GND (power)

## WE-TVS_82401646
designator D?, comment <b>TVS Diode Super Speed Series / <br> / <br> / <br><b> Characteristics / <br> / <br></b></b> Operating temperature: –55 ºC to +85 °C for 824 014 x; –40 ºC to +85 °C for 824 016 46 / <br> / <br> Low clamping voltage / <br> / <br> Very low capacitance / <br> / <br> Rail to Rail protection / <br> / <br> Epoxy flame resistant UL94 V-0 / <br> / <br> RoHS, REACH and free of halogens / <br> / <br> / <br><b> Applications / <br> / <br></b> Super Speed data lines / <br> / <br> HDMI 1.3/1.4, DVI / <br> / <brr> DisplayPort / <br> / <br> USB 3.0 SuperSpeed / <br> / <brr> SATA / <br> / <br> GBit LAN / <br> / <brr> ESD protection in accordance with EN 61000-4-2 / <br>– 8 kV contact discharge / <br>– 15 kV air discharge / <br> / <br> / <br> / <br><a href="http://katalog.we-online.de/media/images/eisos/VarTVS_highspeed_pf2.jpg.jpg" title="Enlarge picture"> / <img src="http://katalog.we-online.de/media/images/eisos/VarTVS_highspeed_pf2.jpg" width="320"></a><p> / Details see: <a href="http://katalog.we-online.de/en/pbs/WE-TVS_High_Speed/24014?">http://katalog.we-online.de/en/pbs/WE-TVS_High_Speed/24014?</a><p> / </b>Updated  by  Dan Xu 2014-07-11<br> / </b>2014 (C) Wurth Elektronik
footprint WE-TVS_MSOP-8L
pins: 1, 2, 3, 4, 5, 6, 7 GND (power), 8 VDD (power)

## WE-TVS_82402304
designator D?, comment <b>TVS Diode Standard Series / <br> / <br> / <br><b> Characteristics / <br> / <br></b></b> Operating temperature: –55 ºC to +85 °C for 824 023 x; –55 ºC to +125 °C for 824 021/824 022 / <br> / <br> Very low clamping voltage / <br> / <br> High ESD withstand voltage / <br> / <br> Unidirectional or bidirectional protection / <br> RoHS, REACH and free of halogens / <br> / <br> / <br><b> Applications / <br> / <br></b> DC power supply / <br> / <br> Headsets and accessories / <br> / <br> PDAs / <br> / <br> Digital cameras / <br> / <br> MP3-Player / <br> / <br> Touch Panels / <br> / <br> ESD protection in accordance with EN 61000-4-2 / <br>– 8 kV contact discharge / <br>– 15 kV air discharge / <br> / <br> / <br> / <br><a href="http://katalog.we-online.de/media/images/eisos/VarTVS_highspeed_pf2.jpg.jpg" title="Enlarge picture"> / <img src="http://katalog.we-online.de/media/images/eisos/VarTVS_highspeed_pf2.jpg" width="320"></a><p> / Details see: <a href="http://katalog.we-online.de/en/pbs/WE-TVS_High_Speed/824021?">http://katalog.we-online.de/en/pbs/WE-TVS_High_Speed/824021?</a><p> / </b>Updated  by  Dan Xu 2014-07-11<br> / </b>2014 (C) Wurth Elektronik
footprint WE-TVS_SOT23-6L
pins: 1, 2 GND (power), 3 2, 4 3, 5 GND (power), 6 4

## WE-TVS_82402305
designator D?, comment <b>TVS Diode Standard Series / <br> / <br> / <br><b> Characteristics / <br> / <br></b></b> Operating temperature: –55 ºC to +85 °C for 824 023 x; –55 ºC to +125 °C for 824 021/824 022 / <br> / <br> Very low clamping voltage / <br> / <br> High ESD withstand voltage / <br> / <br> Unidirectional or bidirectional protection / <br> RoHS, REACH and free of halogens / <br> / <br> / <br><b> Applications / <br> / <br></b> DC power supply / <br> / <br> Headsets and accessories / <br> / <br> PDAs / <br> / <br> Digital cameras / <br> / <br> MP3-Player / <br> / <br> Touch Panels / <br> / <br> ESD protection in accordance with EN 61000-4-2 / <br>– 8 kV contact discharge / <br>– 15 kV air discharge / <br> / <br> / <br> / <br><a href="http://katalog.we-online.de/media/images/eisos/VarTVS_highspeed_pf2.jpg.jpg" title="Enlarge picture"> / <img src="http://katalog.we-online.de/media/images/eisos/VarTVS_highspeed_pf2.jpg" width="320"></a><p> / Details see: <a href="http://katalog.we-online.de/en/pbs/WE-TVS_High_Speed/824021?">http://katalog.we-online.de/en/pbs/WE-TVS_High_Speed/824021?</a><p> / </b>Updated  by  Dan Xu 2014-07-11<br> / </b>2014 (C) Wurth Elektronik
footprint WE-TVS_SOT23-6L
pins: 1, 2 GND (power), 3 2, 4 3, 5 4, 6 5

## WE-TVS_82402374
designator D?, comment <b>TVS Diode Standard Series / <br> / <br> / <br><b> Characteristics / <br> / <br></b></b> Operating temperature: –55 ºC to +85 °C for 824 023 x; –55 ºC to +125 °C for 824 021/824 022 / <br> / <br> Very low clamping voltage / <br> / <br> High ESD withstand voltage / <br> / <br> Unidirectional or bidirectional protection / <br> RoHS, REACH and free of halogens / <br> / <br> / <br><b> Applications / <br> / <br></b> DC power supply / <br> / <br> Headsets and accessories / <br> / <br> PDAs / <br> / <br> Digital cameras / <br> / <br> MP3-Player / <br> / <br> Touch Panels / <br> / <br> ESD protection in accordance with EN 61000-4-2 / <br>– 8 kV contact discharge / <br>– 15 kV air discharge / <br> / <br> / <br> / <br><a href="http://katalog.we-online.de/media/images/eisos/VarTVS_highspeed_pf2.jpg.jpg" title="Enlarge picture"> / <img src="http://katalog.we-online.de/media/images/eisos/VarTVS_highspeed_pf2.jpg" width="320"></a><p> / Details see: <a href="http://katalog.we-online.de/en/pbs/WE-TVS_High_Speed/824021?">http://katalog.we-online.de/en/pbs/WE-TVS_High_Speed/824021?</a><p> / </b>Updated  by  Dan Xu 2014-07-11<br> / </b>2014 (C) Wurth Elektronik
footprint WE-TVS_SC70-5L
pins: 1, 2 GND (power), 3 2, 4 3, 5 4

## WE-TVS_82402375
designator D?, comment <b>TVS Diode Standard Series / <br> / <br> / <br><b> Characteristics / <br> / <br></b></b> Operating temperature: –55 ºC to +85 °C for 824 023 x; –55 ºC to +125 °C for 824 021/824 022 / <br> / <br> Very low clamping voltage / <br> / <br> High ESD withstand voltage / <br> / <br> Unidirectional or bidirectional protection / <br> RoHS, REACH and free of halogens / <br> / <br> / <br><b> Applications / <br> / <br></b> DC power supply / <br> / <br> Headsets and accessories / <br> / <br> PDAs / <br> / <br> Digital cameras / <br> / <br> MP3-Player / <br> / <br> Touch Panels / <br> / <br> ESD protection in accordance with EN 61000-4-2 / <br>– 8 kV contact discharge / <br>– 15 kV air discharge / <br> / <br> / <br> / <br><a href="http://katalog.we-online.de/media/images/eisos/VarTVS_highspeed_pf2.jpg.jpg" title="Enlarge picture"> / <img src="http://katalog.we-online.de/media/images/eisos/VarTVS_highspeed_pf2.jpg" width="320"></a><p> / Details see: <a href="http://katalog.we-online.de/en/pbs/WE-TVS_High_Speed/824021?">http://katalog.we-online.de/en/pbs/WE-TVS_High_Speed/824021?</a><p> / </b>Updated  by  Dan Xu 2014-07-11<br> / </b>2014 (C) Wurth Elektronik
footprint WE-TVS_SC70-6L
pins: 1, 2 GND (power), 3 2, 4 3, 5 4, 6 5

## WE-TVSP_BI_SMA
designator D?, comment <b> WE-TVSP Power TVS Diode</b> / <br><a href="http://katalog.we-online.de/media/images/v2/Family_WE-TVSP_600W-3000W_D0214AA.jpg" title="Enlarge picture"> / <img src="http://katalog.we-online.de/media/images/v2/Family_WE-TVSP_600W-3000W_D0214AA.jpg" width="320"></a><p> / Details see: <a href="http://katalog.we-online.de/en/pbs/WE-TVSP/824500101">http://katalog.we-online.de/en/pbs/WE-TVSP/824500101</a><p> / 2015 (C) Würth Elektronik
footprint VARTVSP_SMA/DO-214AC
pins: 1, 2

## WE-TVSP_BI_SMB
designator D?, comment <b> WE-TVSP Power TVS Diode</b> / <br><a href="http://katalog.we-online.de/media/images/v2/Family_WE-TVSP_600W-3000W_D0214AA.jpg" title="Enlarge picture"> / <img src="http://katalog.we-online.de/media/images/v2/Family_WE-TVSP_600W-3000W_D0214AA.jpg" width="320"></a><p> / Details see: <a href="http://katalog.we-online.de/en/pbs/WE-TVSP/824500101">http://katalog.we-online.de/en/pbs/WE-TVSP/824500101</a><p> / 2015 (C) Würth Elektronik
footprint VARTVSP_SMB/DO-214AA
pins: 1, 2

## WE-TVSP_BI_SMC
designator D?, comment <b> WE-TVSP Power TVS Diode</b> / <br><a href="http://katalog.we-online.de/media/images/v2/Family_WE-TVSP_600W-3000W_D0214AA.jpg" title="Enlarge picture"> / <img src="http://katalog.we-online.de/media/images/v2/Family_WE-TVSP_600W-3000W_D0214AA.jpg" width="320"></a><p> / Details see: <a href="http://katalog.we-online.de/en/pbs/WE-TVSP/824500101">http://katalog.we-online.de/en/pbs/WE-TVSP/824500101</a><p> / 2015 (C) Würth Elektronik
footprint VARTVSP_SMC&SMD/DO-214AB
pins: 1, 2

## WE-TVSP_UNI_SMA
designator D?, comment <b> WE-TVSP Power TVS Diode</b> / <br><a href="http://katalog.we-online.de/media/images/v2/Family_WE-TVSP_600W-3000W_D0214AA.jpg" title="Enlarge picture"> / <img src="http://katalog.we-online.de/media/images/v2/Family_WE-TVSP_600W-3000W_D0214AA.jpg" width="320"></a><p> / Details see: <a href="http://katalog.we-online.de/en/pbs/WE-TVSP/824500101">http://katalog.we-online.de/en/pbs/WE-TVSP/824500101</a><p> / 2015 (C) Würth Elektronik
footprint VARTVSP_SMA/DO-214AC_UNI
pins: A, C

## WE-TVSP_UNI_SMB
designator D?, comment <b> WE-TVSP Power TVS Diode</b> / <br><a href="http://katalog.we-online.de/media/images/v2/Family_WE-TVSP_600W-3000W_D0214AA.jpg" title="Enlarge picture"> / <img src="http://katalog.we-online.de/media/images/v2/Family_WE-TVSP_600W-3000W_D0214AA.jpg" width="320"></a><p> / Details see: <a href="http://katalog.we-online.de/en/pbs/WE-TVSP/824500101">http://katalog.we-online.de/en/pbs/WE-TVSP/824500101</a><p> / 2015 (C) Würth Elektronik
footprint VARTVSP_SMB/DO-214AA_UNI
pins: A, C

## WE-TVSP_UNI_SMC
designator D?, comment <b> WE-TVSP Power TVS Diode</b> / <br><a href="http://katalog.we-online.de/media/images/v2/Family_WE-TVSP_600W-3000W_D0214AA.jpg" title="Enlarge picture"> / <img src="http://katalog.we-online.de/media/images/v2/Family_WE-TVSP_600W-3000W_D0214AA.jpg" width="320"></a><p> / Details see: <a href="http://katalog.we-online.de/en/pbs/WE-TVSP/824500101">http://katalog.we-online.de/en/pbs/WE-TVSP/824500101</a><p> / 2015 (C) Würth Elektronik
footprint VARTVSP_SMC&SMD/DO-214AB_UNI
pins: A, C

## WE-UCF_2TURNS
designator L?, comment <B>WE-UCF SMD Common Mode Line Filter / <Br> / <br> / <br><b> Characteristics / <br> / <br></b></b> High inductance range / <br> / <br> High current range / <br> / <br> Small package / <br> / <br> Low profile / <br> / <br> Surface mount technology / <br> Wide range of filtering spectrum / <br> / <br> / <br><b> Applications / <br> / <Br></b> Filtering / <br> / <br> DC power lines / <br> / <br> Buck-/Boost Converter filtering / <br> / <br> Data lines with low bitrate / <br> / <br> Heavily influenced lines / <br> / <br> / <br> / <br><a href="http://katalog.we-online.de/media/images/eisos/IndUCF_pf2.jpg" title="Enlarge picture"> / <img src="http://katalog.we-online.de/media/thumbs2/eisos/thb_IndUCF_pf2.jpg" width="320"></a><p> / Details see: <a href="http://katalog.we-online.de/en/pbs/WE-UCF?">http://katalog.we-online.de/en/pbs/WE-UCF?</a><p> / </b>Updated  by  Dan Xu 2014-07-11<br> / </b>2014 (C) Wurth Elektronik
footprint WE-UCF
pins: 1, 5 4, 6 3, 10 2

## WE-UCF_4TURNS
designator L?, comment <B>WE-UCF SMD Common Mode Line Filter / <Br> / <br> / <br><b> Characteristics / <br> / <br></b></b> High inductance range / <br> / <br> High current range / <br> / <br> Small package / <br> / <br> Low profile / <br> / <br> Surface mount technology / <br> Wide range of filtering spectrum / <br> / <br> / <br><b> Applications / <br> / <Br></b> Filtering / <br> / <br> DC power lines / <br> / <br> Buck-/Boost Converter filtering / <br> / <br> Data lines with low bitrate / <br> / <br> Heavily influenced lines / <br> / <br> / <br> / <br><a href="http://katalog.we-online.de/media/images/eisos/IndUCF_pf2.jpg" title="Enlarge picture"> / <img src="http://katalog.we-online.de/media/thumbs2/eisos/thb_IndUCF_pf2.jpg" width="320"></a><p> / Details see: <a href="http://katalog.we-online.de/en/pbs/WE-UCF?">http://katalog.we-online.de/en/pbs/WE-UCF?</a><p> / </b>Updated  by  Dan Xu 2014-07-11<br> / </b>2014 (C) Wurth Elektronik
footprint WE-UCF
pins: 1 2 1, 4 5 4, 6 7 3, 9 10 2

## WE-UCF_UCF
designator ?, comment <B>WE-UCF SMD Common Mode Line Filter / <Br> / <br> / <br><b> Characteristics / <br> / <br></b></b> High inductance range / <br> / <br> High current range / <br> / <br> Small package / <br> / <br> Low profile / <br> / <br> Surface mount technology / <br> Wide range of filtering spectrum / <br> / <br> / <br><b> Applications / <br> / <Br></b> Filtering / <br> / <br> DC power lines / <br> / <br> Buck-/Boost Converter filtering / <br> / <br> Data lines with low bitrate / <br> / <br> Heavily influenced lines / <br> / <br> / <br> / <br><a href="http://katalog.we-online.de/media/images/eisos/IndUCF_pf2.jpg" title="Enlarge picture"> / <img src="http://katalog.we-online.de/media/thumbs2/eisos/thb_IndUCF_pf2.jpg" width="320"></a><p> / Details see: <a href="http://katalog.we-online.de/en/pbs/WE-UCF?">http://katalog.we-online.de/en/pbs/WE-UCF?</a><p> / </b>Updated  by  Dan Xu 2014-07-11<br> / </b>2014 (C) Wurth Elektronik
footprint WE-UCF
pins: 1, 5 4, 6 3, 10 2

## WE-UKW_1SW74275143
designator L?, comment <b>WE-UKW EMI Suppression 6-Hole Ferrite Bead / <BR> / <BR> / <br><b> Characteristics / <br> / <br></b></b> Impedance will increase with more turns, available in 1 to 3 turns / <br> / <br> 4 different materials available for perfect interference suppression / <Br> / <br> Also available ready-bent or in individual length / <br> / <br> Maximum current capability is 3 A / 5 A (short-time) / <br> / <br> Operating temperature: –25 ºC to +125 ºC / <br> / <br> / <br><b> Applications / <br> / <br></b> Protection against radio frequency interferences of components on PCB’s of PC’s, text processing and other digital devices / <br> / <br> / <br> / <br><a href="http://katalog.we-online.de/media/images/eisos/FeUKW_pf2.jpg" title="Enlarge picture"> / <img src="http://katalog.we-online.de/media/thumbs2/eisos/thb_FeUKW_pf2.jpg" width="320"></a><p> / Details see: <a href="http://katalog.we-online.de/en/pbs/WE-UKW/S/">http://katalog.we-online.de/en/pbs/WE-UKW/S/</a><p> / </b>Created  by  Dan Xu 2014-06-10<br> / </b>2014 (C) Wurth Elektronik
footprint WE-UKW_74275143
pins: 1, 2

## WE-UKW_1SW_7427501
designator L?, comment <b>WE-UKW EMI Suppression 6-Hole Ferrite Bead / <BR> / <BR> / <br><b> Characteristics / <br> / <br></b></b> Impedance will increase with more turns, available in 1 to 3 turns / <br> / <br> 4 different materials available for perfect interference suppression / <Br> / <br> Also available ready-bent or in individual length / <br> / <br> Maximum current capability is 3 A / 5 A (short-time) / <br> / <br> Operating temperature: –25 ºC to +125 ºC / <br> / <br> / <br><b> Applications / <br> / <br></b> Protection against radio frequency interferences of components on PCB’s of PC’s, text processing and other digital devices / <br> / <br> / <br> / <br><a href="http://katalog.we-online.de/media/images/eisos/FeUKW_pf2.jpg" title="Enlarge picture"> / <img src="http://katalog.we-online.de/media/thumbs2/eisos/thb_FeUKW_pf2.jpg" width="320"></a><p> / Details see: <a href="http://katalog.we-online.de/en/pbs/WE-UKW/S/">http://katalog.we-online.de/en/pbs/WE-UKW/S/</a><p> / </b>Created  by  Dan Xu 2014-06-10<br> / </b>2014 (C) Wurth Elektronik
footprint WE-UKW_7427501
pins: 1, 2

## WE-UKW_1SW_7427502
designator L?, comment <b>WE-UKW EMI Suppression 6-Hole Ferrite Bead / <BR> / <BR> / <br><b> Characteristics / <br> / <br></b></b> Impedance will increase with more turns, available in 1 to 3 turns / <br> / <br> 4 different materials available for perfect interference suppression / <Br> / <br> Also available ready-bent or in individual length / <br> / <br> Maximum current capability is 3 A / 5 A (short-time) / <br> / <br> Operating temperature: –25 ºC to +125 ºC / <br> / <br> / <br><b> Applications / <br> / <br></b> Protection against radio frequency interferences of components on PCB’s of PC’s, text processing and other digital devices / <br> / <br> / <br> / <br><a href="http://katalog.we-online.de/media/images/eisos/FeUKW_pf2.jpg" title="Enlarge picture"> / <img src="http://katalog.we-online.de/media/thumbs2/eisos/thb_FeUKW_pf2.jpg" width="320"></a><p> / Details see: <a href="http://katalog.we-online.de/en/pbs/WE-UKW/S/">http://katalog.we-online.de/en/pbs/WE-UKW/S/</a><p> / </b>Created  by  Dan Xu 2014-06-10<br> / </b>2014 (C) Wurth Elektronik
footprint WE-UKW_7427502
pins: 1, 2